# EAGLE library part PGA2320 (library texas)
DIGITALLY-CONTROLLED ANALOG VOLUME CONTROL
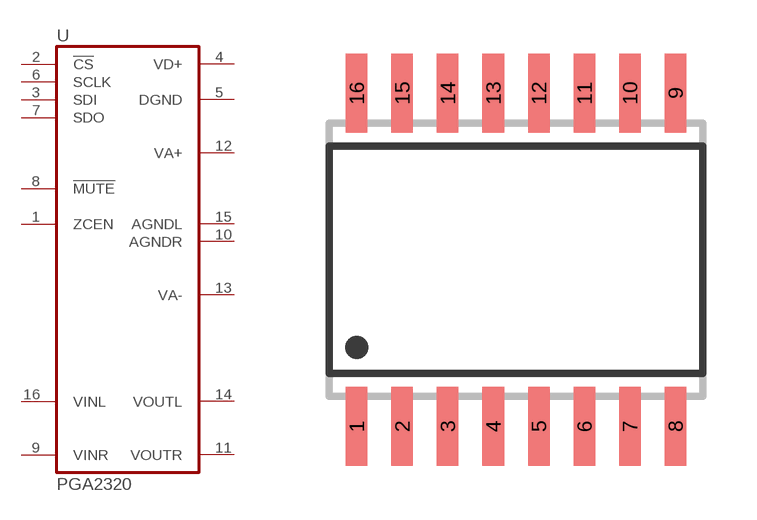
[diagram p134: symbol with the pads of SO16W; footprint SO16W]

Designator prefix U

## PGA2320DW  [SO16W]
1  ZCEN  in
2  !CS!  in
3  SDI  in
4  VD+  pwr
5  DGND  pwr
6  SCLK  in
7  SDO  out
8  !MUTE!  in
9  VINR  in
10  AGNDR  pwr
11  VOUTR  out
12  VA+  pwr
13  VA-  pwr
14  VOUTL  out
15  AGNDL  pwr
16  VINL  in

## Footprint SO16W (pad centres in mm)
SMALL OUTLINE INTEGRATED CIRCUIT wide body 7.5 mm/JEDEC MS-013AA
smd 0.6 x 2.2: 1 -4.445,-4.65; 2 -3.175,-4.65; 3 -1.905,-4.65; 4 -0.635,-4.65; 5 0.635,-4.65; 6 1.905,-4.65; 7 3.175,-4.65; 8 4.445,-4.65; 9 4.445,4.65; 10 3.175,4.65; 11 1.905,4.65; 12 0.635,4.65; 13 -0.635,4.65; 14 -1.905,4.65; 15 -3.175,4.65; 16 -4.445,4.65